# Altium schematic symbol library A3977.SchLib: 1 symbol
Pins are listed as number, name and electrical type; pins without a type are passive.

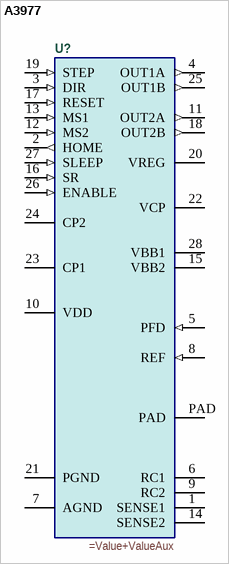
[diagram p0: symbol A3977]

## A3977
designator U?
=Description
pins: 1 SENSE1, 2 HOME (out), 3 DIR (in), 4 OUT1A (out), 5 PFD (in), 6 RC1, 7 AGND (power), 8 REF (in), 9 RC2, 10 VDD (power), 11 OUT2A (out), 12 MS2 (in), 13 MS1 (in), 14 SENSE2, 15 VBB2, 16 SR (in), 17 RESET (in), 18 OUT2B (out), 19 STEP (in), 20 VREG, 21 PGND (power), 22 VCP, 23 CP1, 24 CP2, 25 OUT1B (out), 26 ENABLE (in), 27 SLEEP (in), 28 VBB1, PAD (power)